# Altium footprint library PCB_Library.PcbLib: 3 footprints
Each footprint in its own frame and in the unit in brackets; x right, y up, seen from the top. Pads: shape width x height; smd on the part's side, far side on the other; paste and mask are expansions set on the pad; w line width, h text height; cw(c..) or ccw(c..) is an arc to the next point about the centre after c.
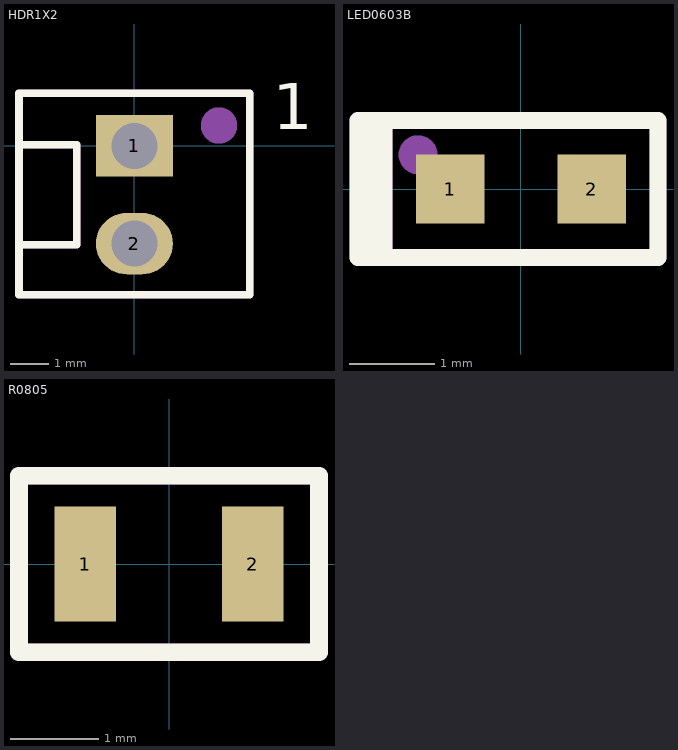
[diagram p0: the footprints below, top view; thin cyan lines are the x and y axes]

## HDR1X2 [mm]
pads (2):
  rect 2x1.6 hole 1.2: 1(0,0)
  oval 2x1.6 hole 1.2: 2(0,-2.54)
Top Overlay:
  lines w0.2: -3,-2.57 -1.5,-2.57 -1.5,0.03 -3,0.03 ; -3,-3.87 3,-3.87 3,1.37 2.351,1.37 -1.5,1.37 -3,1.37 -3,-3.87
  text "1" at 3.6,0.43 h1.2
Mechanical 29:
  circle w0.5: c2.2,0.53 r0.224
  lines w0.2: -3,-2.57 -1.5,-2.57 -1.5,0.03 -3,0.03 ; -3,-3.87 -3,1.37 -1.5,1.37 2.351,1.37 3,1.37 3,-3.87 -3,-3.87
  text "'.Designator'" at -1,-1.6 h1
3D body "022292021.stp": height 11.71, standoff -3.55, extent -2.9,-3.81 2.9,1.27

## LED0603B [mm]
pads (2):
  rect 0.8x0.8 smd: 1(-0.825,0) 2(0.825,0)
Top Overlay:
  rectangle: -1.9,-0.8 -1.5,0.8
  lines w0.2: -1.9,-0.8 -1.9,0.8 1.6,0.8 1.6,-0.8 -1.9,-0.8
Mechanical 29:
  circle w0.254: c-1.2,0.4 r0.1
  rectangle: -1.9,-0.8 -1.5,0.8
  lines w0.2: -1.9,-0.8 1.6,-0.8 1.6,0.8 -1.9,0.8 -1.9,-0.8
  text "'.Designator'" at -0.7,-0.3 h0.6
3D body "User Library-SMD LED 0603.step": height 0.4, standoff 0.01, extent -0.9,-0.4 0.7,0.4

## R0805 [mm]
pads (2):
  rect 0.7x1.3 smd: 1(-0.95,0) 2(0.95,0)
Top Overlay:
  lines w0.2: -1.7,-1 1.7,-1 1.7,1 -1.7,1 -1.7,-1
Mechanical 29:
  lines w0.2: -1.7,-1 -1.7,1 1.7,1 1.7,-1 -1.7,-1
  text "'.Designator'" at -1.4,-0.2 h0.6
3D body "User Library-CR2012-0805.step": height 0.61, standoff 0.01, extent -1,-0.625 1,0.625